# EAGLE library part RT7266 (library template)
The RT7266 is an adaptive on-time ACOTTM mode synchronous buck converter. The adaptive on-time ACOTTM mode control provides a very fast transient response with few external components. The low impedance internal MOSFET can support high efficiency operation with wide input voltage range from 4.5V to 18V . The proprietary circuit of the RT7266 enables to support all ceramic capacitors. The output voltage can be adjustable between 0.8V and 8V. The soft-start is adjustable by an external capacitor.
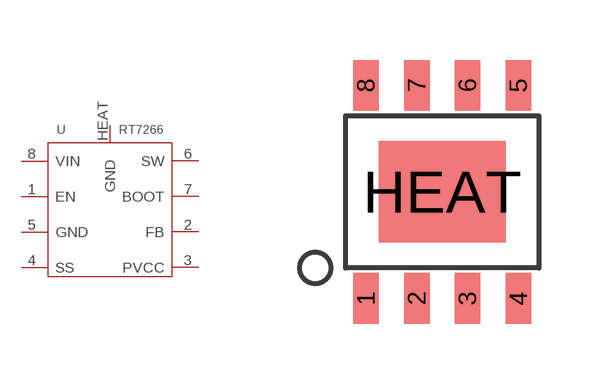
[diagram p33: symbol with the pads of SOP8-W/HEAT; footprint SOP8-W/HEAT]

Designator prefix U

## RT7266  [SOP8-W/HEAT]
1  EN
2  FB
3  PVCC
4  SS
5  GND
6  SW
7  BOOT
8  VIN
HEAT  GND

## Footprint SOP8-W/HEAT (pad centres in mm)
smd 0.635 x 1.27: 1 -1.905,-2.667; 2 -0.635,-2.667; 3 0.635,-2.667; 4 1.905,-2.667; 5 1.905,2.667; 6 0.635,2.667; 7 -0.635,2.667; 8 -1.905,2.667
smd 3.175 x 2.54: HEAT 0,0